# Altium footprint library 心形流水灯.PcbLib: 12 footprints
Each footprint in its own frame and in the unit in brackets; x right, y up, seen from the top. Pads: shape width x height; smd on the part's side, far side on the other; paste and mask are expansions set on the pad; w line width, h text height; cw(c..) or ccw(c..) is an arc to the next point about the centre after c.
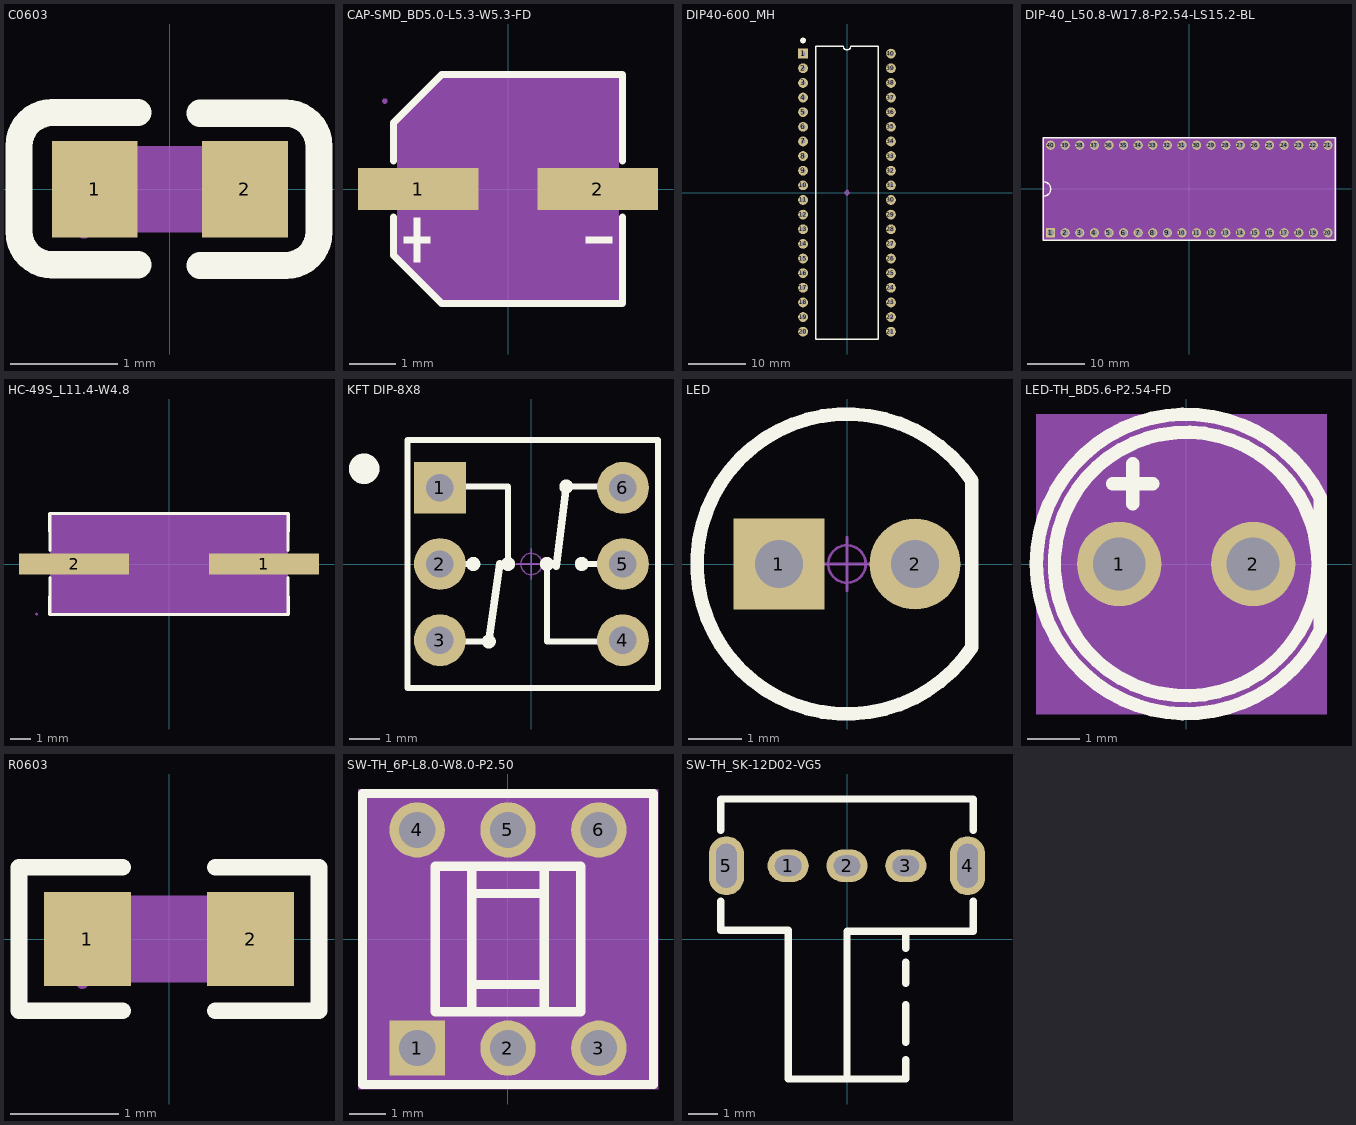
[diagram p0: the footprints below, top view; thin cyan lines are the x and y axes]

## C0603 [mm]
pads (2):
  rect 0.8x0.9 smd: 1(-0.7,0) 2(0.7,0)
Top Overlay:
  lines w0.254: -0.296,-0.704 -1.096,-0.704 cw(c-1.096,-0.394) -1.406,-0.394 -1.405,0.406 cw(c-1.096,0.406) -1.096,0.715 -0.296,0.715 ; 0.28,-0.71 1.08,-0.71 ccw(c1.08,-0.4) 1.39,-0.4 1.39,0.4 ccw(c1.08,0.4) 1.08,0.71 0.28,0.71
Top Paste:
  region: 0.315,-0.138 0.315,0.138 0.718,0.432 1.014,0.432 1.078,0.368 1.078,-0.368 1.014,-0.432 0.718,-0.432
  region: -0.315,-0.138 -0.315,0.138 -0.718,0.432 -1.014,0.432 -1.078,0.368 -1.078,-0.368 -1.014,-0.432 -0.718,-0.432
Mechanical 4:
  region: -0.8,-0.4 -0.8,0.4 0.8,0.4 0.8,-0.4
Mechanical 5:
  region: -0.8,-0.4 -0.8,0.4 -0.5,0.4 -0.5,-0.4
  region: 0.8,-0.4 0.8,0.4 0.5,0.4 0.5,-0.4
Mechanical 6:
  circle w0.06: c-0.8,-0.4 r0.03

## CAP-SMD_BD5.0-L5.3-W5.3-FD [mm]
pads (2):
  rect 2.61x0.91 smd: 1(-1.945,0) 2(1.945,0)
Top Overlay:
  region: 2.256,-1.032 2.256,-1.176 1.68,-1.176 1.68,-1.032
  region: -2.256,-1.032 -2.256,-1.176 -1.68,-1.176 -1.68,-1.032
  region: -2.04,-0.624 -2.04,-1.584 -1.896,-1.584 -1.896,-0.624
  lines w0.152: -2.476,-0.607 -2.476,-1.44 -1.44,-2.476 2.476,-2.476 2.476,-0.607 ; -2.476,0.607 -2.476,1.44 -1.44,2.476 2.476,2.476 2.476,0.607
Mechanical 4:
  region: 2.4,2.4 2.4,-2.4 -1.44,-2.4 -2.4,-1.44 -2.4,1.44 -1.44,2.4
Mechanical 5:
  region: 2.65,0.325 2.65,-0.325 0.7,-0.325 0.7,0.325
  region: -2.65,0.325 -2.65,-0.325 -0.7,-0.325 -0.7,0.325
Mechanical 6:
  circle w0.06: c-2.667,1.905 r0.03
Mechanical 15:
  region: 2.256,0.072 2.256,-0.072 1.68,-0.072 1.68,0.072
  region: -2.256,0.072 -2.256,-0.072 -1.68,-0.072 -1.68,0.072
  region: -2.04,0.48 -2.04,-0.48 -1.896,-0.48 -1.896,0.48

## DIP40-600_MH [mm] "带底座 52*15.2*4mm(长宽高)"
height 0.5
pads (40):
  rect 1.7x1.7 hole 0.8: 1(-7.62,24.13)
  round 1.7 hole 0.8: 2(-7.62,21.59) 3(-7.62,19.05) 4(-7.62,16.51) 5(-7.62,13.97) 6(-7.62,11.43) 7(-7.62,8.89) 8(-7.62,6.35) 9(-7.62,3.81) 10(-7.62,1.27) 11(-7.62,-1.27) 12(-7.62,-3.81) 13(-7.62,-6.35) 14(-7.62,-8.89) 15(-7.62,-11.43) 16(-7.62,-13.97) 17(-7.62,-16.51) 18(-7.62,-19.05) 19(-7.62,-21.59) 20(-7.62,-24.13) 21(7.62,-24.13) 22(7.62,-21.59) 23(7.62,-19.05) 24(7.62,-16.51) 25(7.62,-13.97) 26(7.62,-11.43) 27(7.62,-8.89) 28(7.62,-6.35) 29(7.62,-3.81) 30(7.62,-1.27) 31(7.62,1.27) 32(7.62,3.81) 33(7.62,6.35) 34(7.62,8.89) 35(7.62,11.43) 36(7.62,13.97) 37(7.62,16.51) 38(7.62,19.05) 39(7.62,21.59) 40(7.62,24.13)
Top Overlay:
  circle w0.508: c-7.62,26.416 r0.254
  lines w0.254: -5.461,-25.4 -5.461,25.4 -0.635,25.4 ccw(c0,25.4) 0.635,25.4 5.461,25.4 5.461,-25.4 -5.461,-25.4
Mechanical 15:
  circle w0.05: c0,0 r0.35
  lines w0.05: -0.5,0 0.5,0 ; 0,-0.5 0,0.5
3D body "DIP40-600.STEP": height 8.3, standoff 0.4, extent -7.78,-26.176 7.78,26.176
3D body "DIP-MH40-600.STEP": height 5.2, standoff -3, extent -8.9,-25.3 8.9,25.3

## DIP-40_L50.8-W17.8-P2.54-LS15.2-BL [mm]
pads (40):
  rect 1.6x1.6 hole 1.1: 1(-24.13,-7.62)
  round 1.6 hole 1.1: 2(-21.59,-7.62) 3(-19.05,-7.62) 4(-16.51,-7.62) 5(-13.97,-7.62) 6(-11.43,-7.62) 7(-8.89,-7.62) 8(-6.35,-7.62) 9(-3.81,-7.62) 10(-1.27,-7.62) 11(1.27,-7.62) 12(3.81,-7.62) 13(6.35,-7.62) 14(8.89,-7.62) 15(11.43,-7.62) 16(13.97,-7.62) 17(16.51,-7.62) 18(19.05,-7.62) 19(21.59,-7.62) 20(24.13,-7.62) 21(24.125,7.62) 22(21.586,7.62) 23(19.045,7.62) 24(16.505,7.62) 25(13.965,7.62) 26(11.425,7.62) 27(8.885,7.62) 28(6.345,7.62) 29(3.81,7.62) 30(1.27,7.62) 31(-1.27,7.62) 32(-3.81,7.62) 33(-6.35,7.62) 34(-8.89,7.62) 35(-11.43,7.62) 36(-13.97,7.62) 37(-16.51,7.62) 38(-19.05,7.62) 39(-21.59,7.62) 40(-24.13,7.62)
Top Overlay:
  lines w0.254: -25.4,-1.27 ccw(c-25.4,0) -25.4,1.27 ; -25.4,-8.89 25.4,-8.89 25.4,8.89 -25.4,8.89 -25.4,-8.89
Mechanical 4:
  region: -25.527,9.017 25.527,9.017 25.527,-9.017 -25.527,-9.017
Mechanical 5:
  drawing of 40 lines, arcs and shapes, not listed

## HC-49S_L11.4-W4.8 [mm]
pads (2):
  rect 5.274x1.02 smd: 1(4.553,0) 2(-4.553,0)
Top Overlay:
  lines w0.152: -5.7,-0.662 -5.715,-2.413 5.715,-2.413 5.7,-0.662 ; -5.7,0.662 -5.715,2.413 5.715,2.413 5.7,0.662
Mechanical 4:
  region: -5.7,-2.4 -5.7,2.4 5.7,2.4 5.7,-2.4
Mechanical 5:
  region: -6.35,-0.3 -6.35,0.3 -2,0.3 -2,-0.3
  region: 6.35,-0.3 6.35,0.3 2,0.3 2,-0.3
Mechanical 6:
  circle w0.06: c-6.35,-2.4 r0.03

## KFT DIP-8X8 [mm] "自锁开关，规格：8*8mm"
height 0.5
pads (6):
  rect 1.7x1.7 hole 0.9: 1(-3,2.5)
  round 1.7 hole 0.9: 2(-3,0) 3(-3,-2.5) 4(3,-2.5) 5(3,0) 6(3,2.5)
Top Overlay:
  circle w0.6: c-5.486,3.124 r0.2
  circle w0.254: c-0.762,0 r0.102
  circle w0.254: c0.508,0 r0.102
  circle w0.254: c-1.397,-2.54 r0.102
  circle w0.254: c-1.905,0 r0.102
  circle w0.254: c1.651,0 r0.102
  circle w0.254: c1.143,2.54 r0.102
  lines w0.2: -4.064,-4.064 4.153,-4.064 4.153,4.064 -4.064,4.064 -4.064,-4.064
  lines w0.203: -3.048,-2.54 -1.397,-2.54 ; -3.048,0 -1.771,0 ; -3.048,2.54 -0.762,2.54 -0.762,0 ; 0.508,0 0.508,-2.54 2.794,-2.54 ; 1.143,2.54 2.794,2.54 ; 1.6,0 2.794,0
  lines w0.254: -1.397,-2.54 -1.041,0 ; 0.813,-0.076 1.143,2.54
Mechanical 15:
  circle w0.05: c0,0 r0.35
  lines w0.05: -0.5,0 0.5,0 ; 0,-0.5 0,0.5
3D body "SLSW 8x8.STEP": height 13.1, standoff -3.2, extent -3.949,-4.051 4.051,3.949

## LED [mm]
pads (2):
  rect 1.7x1.7 hole 0.9: 1(-1.27,0)
  round 1.7 hole 0.9: 2(1.27,0)
Top Overlay:
  lines w0.254: 2.33,-1.553 cw(c0,0) 2.33,1.553 2.33,-1.553
Mechanical 15:
  circle w0.05: c0,0 r0.35
  lines w0.05: -0.5,0 0.5,0 ; 0,-0.5 0,0.5
3D body "LED 5mm-G.STEP": height 4.5, standoff -3.45, extent -1.983,-0.795 2.076,0.805
3D body "LED 5mm玻璃罩.STEP": height 8.75, standoff 0.05, extent -2.85,-2.85 2.454,2.85

## LED-TH_BD5.6-P2.54-FD [mm]
pads (2):
  round 1.6 hole 1: 1(-1.27,0) 2(1.27,0)
Top Overlay:
  circle w0.254: c0,0 r2.5
  lines w0.254: -1.397,1.524 -0.635,1.524 ; -1.016,1.143 -1.016,1.905 ; 2.54,-1.27 cw(c0,0) 2.54,1.27 2.54,-1.27
Mechanical 4:
  region: -2.845,2.845 2.667,2.845 2.667,-2.845 -2.845,-2.845
Mechanical 5:
  region: 0.47,0.8 2.07,0.8 2.07,-0.8 0.47,-0.8
  region: -2.07,0.8 -0.47,0.8 -0.47,-0.8 -2.07,-0.8

## PCBComponent_1 [mm]

## R0603 [mm]
pads (2):
  rect 0.806x0.864 smd: 1(-0.753,0) 2(0.753,0)
Top Overlay:
  lines w0.152: -0.426,-0.661 -1.385,-0.661 -1.385,0.661 -0.426,0.661 ; 0.426,-0.661 1.385,-0.661 1.385,0.661 0.426,0.661
Top Paste:
  region: 0.315,-0.138 0.315,0.138 0.589,0.432 1.092,0.432 1.156,0.368 1.156,-0.368 1.092,-0.432 0.589,-0.432
  region: -0.315,-0.138 -0.315,0.138 -0.589,0.432 -1.092,0.432 -1.156,0.368 -1.156,-0.368 -1.092,-0.432 -0.589,-0.432
Mechanical 4:
  region: -0.8,-0.4 -0.8,0.4 0.8,0.4 0.8,-0.4
Mechanical 5:
  region: -0.8,-0.4 -0.8,0.4 -0.5,0.4 -0.5,-0.4
  region: 0.8,-0.4 0.8,0.4 0.5,0.4 0.5,-0.4
Mechanical 6:
  circle w0.06: c-0.8,-0.4 r0.03

## SW-TH_6P-L8.0-W8.0-P2.50 [mm]
pads (6):
  rect 1.524x1.524 hole 1: 1(-2.5,-3)
  round 1.524 hole 1: 2(0,-3) 3(2.5,-3) 4(-2.5,3) 5(0,3) 6(2.5,3)
Top Overlay:
  lines w0.254: -1,-2 -1,2 ; -1,-1.25 1,-1.25 ; -1,1.25 1,1.25 ; 1,-2 1,2 ; -4,-4 -4,4 4,4 4,-4 -4,-4 ; -2,-2 -2,2 2,2 2,-2 -2,-2
Mechanical 4:
  region: -4.127,4.127 4.127,4.127 4.127,-4.127 -4.127,-4.127
Mechanical 5:
  region: -3.262,3.762 -1.738,3.762 -1.738,2.238 -3.262,2.238
  region: -0.762,3.762 0.762,3.762 0.762,2.238 -0.762,2.238
  region: 1.738,3.762 3.262,3.762 3.262,2.238 1.738,2.238
  region: -3.262,-2.238 -1.738,-2.238 -1.738,-3.762 -3.262,-3.762
  region: -0.762,-2.238 0.762,-2.238 0.762,-3.762 -0.762,-3.762
  region: 1.738,-2.238 3.262,-2.238 3.262,-3.762 1.738,-3.762

## SW-TH_SK-12D02-VG5 [mm]
pads (5):
  oval 1.4x1.1 hole 0.7 slot 0.9 at 0 deg: 1(-2,2.491) 2(0,2.49) 3(2,2.489)
  oval 1.2x2 hole 0.7 slot 1.5 at 90 deg: 4(4.1,2.49) 5(-4.1,2.49)
Top Overlay:
  lines w0.254: -4.3,1.283 -4.3,0.29 -2.032,0.29 -2,0.29 -2,-4.76 0,-4.76 ; -4.3,3.697 -4.3,4.76 4.3,4.76 4.3,3.697 ; 2,-4.11 2,-4.76 0,-4.76 ; 2,-3.51 2,-2.24 ; 2,-1.51 2,-0.79 ; 2,-0.31 2,0.27 ; 4.3,1.283 4.3,0.27 0,0.27 0,-4.76